# Altium schematic symbol library lcb127str.SchLib: 1 symbol
Pins are listed as number, name and electrical type; pins without a type are passive.

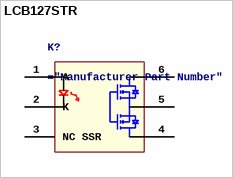
[diagram p0: symbol LCB127STR]

## LCB127STR
designator K?
Relay Ssr 50MA 1.4V Dc-in 0.2A 250V Ac/dc-out 6-PIN PDIP SMD T/r
pins: 1 A, 2 K, 3, 4, 5, 6
text: NC SSR